# Altium schematic symbol library SKB10420.SchLib: 1 symbol
Pins are listed as number, name and electrical type; pins without a type are passive.

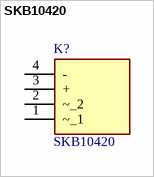
[diagram p0: symbol SKB10420]

## SKB10420
designator K?
Solid State Relay PC Pin PCB Mount, Zero Cross, 5 A, 10 V dc; Manufacturer_Name: Celduc; Geometry.Height: 25.75mm; Manufacturer_Part_Number: SKB10420; Mouser Part Number: *; Mouser Price/Stock: *; Arrow Part Number: *; Arrow Price/Stock: *; Datasheet Link: https://docs.rs-online.com/64f5/0900766b81728a71.pdf
footprint SKB10420
pins: 1 ~_1, 2 ~_2, 3 +, 4 -